# Altium schematic symbol library connector.SchLib: 1 symbol
Pins are listed as number, name and electrical type; pins without a type are passive.

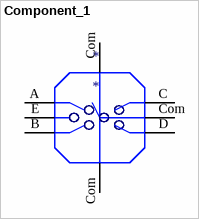
[diagram p0: symbol Component_1]

## Component_1
designator *
footprint EVQ-Q3AA15 (SWITCH LT MULTI DIRECTION SMD)
pins: A, B, C, Com, Com, Com, D, E